# EAGLE library part ITG3205 (library SDSURocket-BreakoutBoards)
ITG3205 Breakout Generic 3-axis Gyroscope Layout for a generic ITG-3205 Breakout board. Commonly sourced from Hong Kong and found on eBay.
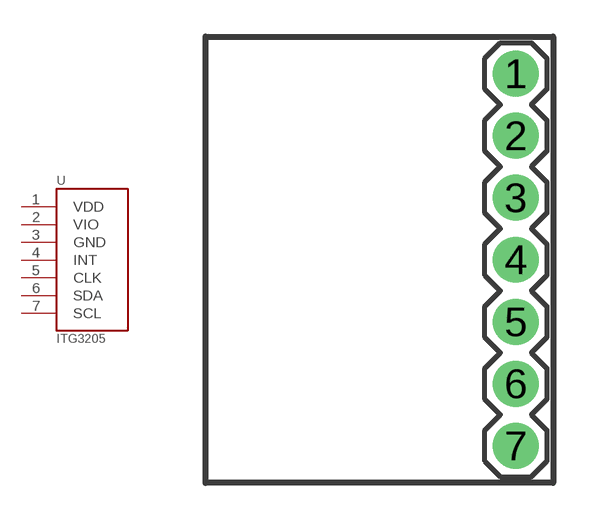
[diagram p7: symbol with the pads of ITG3205; footprint ITG3205]

Designator prefix -

## ITG3205-BREAKOUT  [ITG3205]
1  VDD  pwr
2  VIO  pwr
3  GND  pwr
4  INT  out
5  CLK
6  SDA
7  SCL  in

## Footprint ITG3205 (pad centres in mm)
ITG3205 Breakout Generic 3-axis Gyroscope Layout for a generic ITG-3205 Breakout board. Commonly sourced from Hong Kong and found on eBay.
drill 1.016 pad 1.88: 1 5.588,7.62; 2 5.588,5.08; 3 5.588,2.54; 4 5.588,0; 5 5.588,-2.54; 6 5.588,-5.08; 7 5.588,-7.62